# Altium schematic symbol library UC3845AN.SchLib: 1 symbol
Pins are listed as number, name and electrical type; pins without a type are passive.

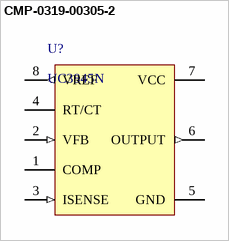
[diagram p0: symbol CMP-0319-00305-2]

## CMP-0319-00305-2
designator U?, comment UC3845N
PWM Controller with Current Control, 50 % Duty Cycle, 0 to +70 degC, 8-pin PDIP (P), Green (RoHS & no Sb/Br); Manufacturer: Texas Instruments; Rating: Catalog; UVLO Thresholds On/Off(V): 8.4/7.6; Regulated Outputs(#): 1; Duty Cycle(Max)(%): 50; Frequency(Max)(kHz): 450; Topology: Boost, Buck, Flyback, Forward; PackageReference: P0008A; PackageDescription: 8-Pin Plastic Dual-In-Line Package, Row Spacing 7.62 mm, Pitch 2.54 mm; SubFamily: PWM Controller; ComponentLink1URL: http://www.ti.com/general/docs/lit/getliterature.tsp?genericPartNumber=UC3845&fileType=pdf; PartNumber: UC3845N; ComponentLink1Description: Datasheet; Control Method: Current; DatasheetVersion: SLUS223C; Eco-Plan: Green (RoHS & no Sb/Br); PackageVersion: revE, Apr-2010; Mounting Technology: Through Hole; Code_JEDEC: MS-001-BA
footprint P0008A (DIP, 8-Leads, Body 10.15x6.6mm, Pitch 2.54mm)
pins: 1 COMP, 2 VFB (in), 3 ISENSE (in), 4 RT/CT, 5 GND (power), 6 OUTPUT (out), 7 VCC (power), 8 VREF (out)